# Altium schematic symbol library Connectors.SchLib: 70 symbols
Pins are listed as number, name and electrical type; pins without a type are passive.

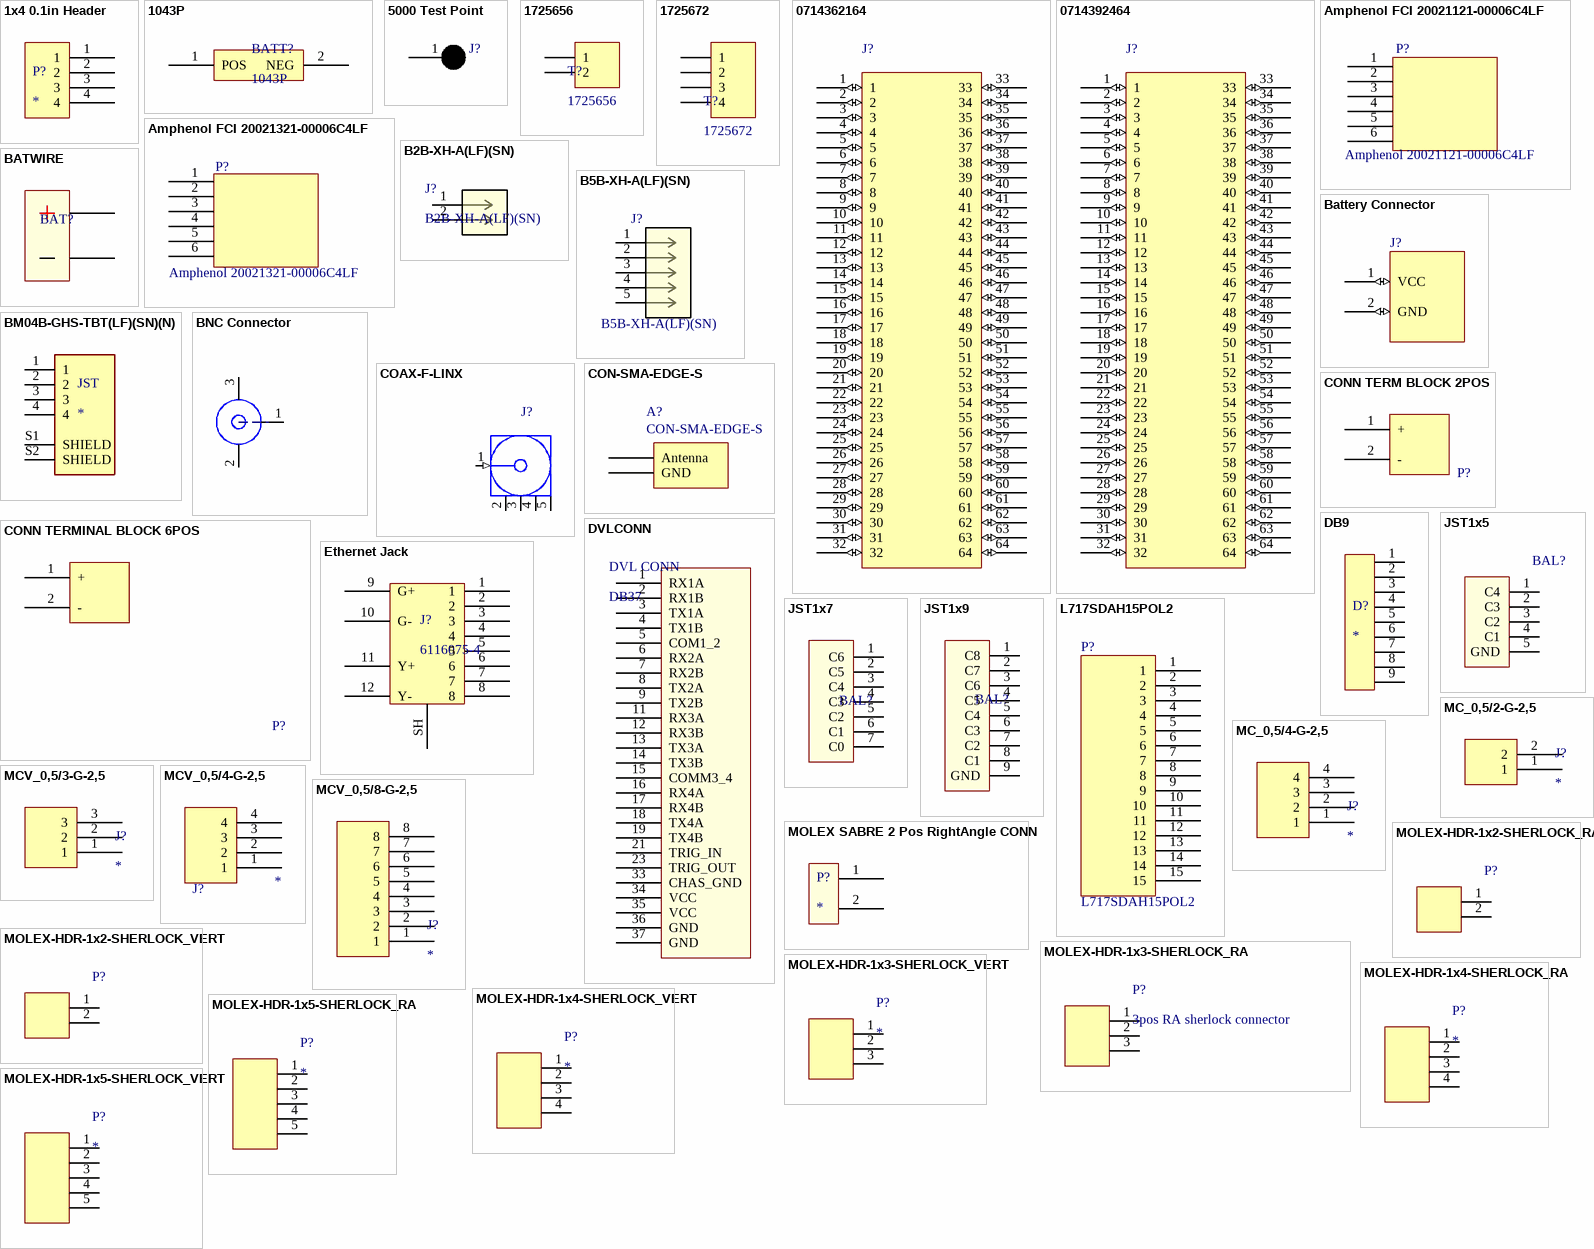
[diagram p0: symbols 1x4 0.1in Header to MOLEX-HDR-1x5-SHERLOCK_VERT]

## 1x4 0.1in Header
designator P?
footprint 1x4 0.1in Header
pins: 1, 2, 3, 4

## 1043P
designator BATT?
HOLDER FOR 18650 BATTERY; Manufacturer 1: Keystone Electronics; Supplier 1: Digi-Key; Supplier Part Number 1: 36-1043P-ND; Manufacturer Part Number 1: 1043P
footprint 1043P (HOLDER FOR 18650 BATTERY)
pins: 1 POS, 2 NEG

## 5000 Test Point
designator J?
footprint 5000 Test Point
pins: 1

## 1725656
designator T?
CONN TERM BLOCK 2.54MM 2POS; Supplier 1: Digi-Key; Supplier Part Number 1: 277-1273-ND
footprint 1725656 (CONN TERM BLOCK 2.54MM 2POS)
pins: 1, 2

## 1725672
designator T?
CONN TERM BLOCK 2.54MM 4POS; Supplier 1: Digi-Key; Supplier Part Number 1: 277-1275-ND
footprint 1725672 (CONN TERM BLOCK 2.54MM 2POS)
pins: 1, 2, 3, 4

## 0714362164
designator J?  (value not drawn)
64 Position Connector Plug, Center Strip Contacts Surface Mount Gold
footprint 1.0mm mezzanine connector 64 pin
pins: 1 (io), 2 (io), 3 (io), 4 (io), 5 (io), 6 (io), 7 (io), 8 (io), 9 (io), 10 (io), 11 (io), 12 (io), 13 (io), 14 (io), 15 (io), 16 (io), 17 (io), 18 (io), 19 (io), 20 (io), 21 (io), 22 (io), 23 (io), 24 (io), 25 (io), 26 (io), 27 (io), 28 (io), 29 (io), 30 (io), 31 (io), 32 (io), 33 (io), 34 (io), 35 (io), 36 (io), 37 (io), 38 (io), 39 (io), 40 (io), 41 (io), 42 (io), 43 (io), 44 (io), 45 (io), 46 (io), 47 (io), 48 (io), 49 (io), 50 (io), 51 (io), 52 (io), 53 (io), 54 (io), 55 (io), 56 (io), 57 (io), 58 (io), 59 (io), 60 (io), 61 (io), 62 (io), 63 (io), 64 (io)

## 0714392464
designator J?  (value not drawn)
64 Position Connector Receptacle, Outer Shroud Contacts Surface Mount Gold
footprint 1.0mm mezzanine connector 64 pin
pins: 1 (io), 2 (io), 3 (io), 4 (io), 5 (io), 6 (io), 7 (io), 8 (io), 9 (io), 10 (io), 11 (io), 12 (io), 13 (io), 14 (io), 15 (io), 16 (io), 17 (io), 18 (io), 19 (io), 20 (io), 21 (io), 22 (io), 23 (io), 24 (io), 25 (io), 26 (io), 27 (io), 28 (io), 29 (io), 30 (io), 31 (io), 32 (io), 33 (io), 34 (io), 35 (io), 36 (io), 37 (io), 38 (io), 39 (io), 40 (io), 41 (io), 42 (io), 43 (io), 44 (io), 45 (io), 46 (io), 47 (io), 48 (io), 49 (io), 50 (io), 51 (io), 52 (io), 53 (io), 54 (io), 55 (io), 56 (io), 57 (io), 58 (io), 59 (io), 60 (io), 61 (io), 62 (io), 63 (io), 64 (io)

## Amphenol FCI 20021121-00006C4LF
designator P?, comment Amphenol 20021121-00006C4LF
6 Positions Header Connector 0.050" (1.27mm) Surface Mount Gold; Manufacturer 1: Amphenol FCI; Manufacturer Part Number 1: 20021121-00006C4LF; Supplier 1: Digi-Key; Supplier Part Number 1: 609-3693-1-ND; ComponentLink1URL: *; ComponentLink1URL: https://www.digikey.com/product-detail/en/amphenol-fci/20021321-00006C4LF/609-3704-1-ND/2209148; ComponentLink1Description: Website; ComponentLink1URL: https://www.digikey.com/product-detail/en/amphenol-fci/20021121-00006C4LF/609-3693-1-ND/2209145
footprint Amphenol FCI 20021121-00006C4LF (6 Positions Header Connector)
pins: 1, 2, 3, 4, 5, 6

## Amphenol FCI 20021321-00006C4LF
designator P?, comment Amphenol 20021321-00006C4LF
6 Position Receptacle Connector 0.050" (1.27mm) Surface Mount Gold; Manufacturer 1: Amphenol FCI; Manufacturer Part Number 1: 20021321-00006C4LF; Supplier 1: Digi-Key; Supplier Part Number 1: 609-3704-1-ND; ComponentLink1URL: *; ComponentLink1URL: https://www.digikey.com/product-detail/en/amphenol-fci/20021321-00006C4LF/609-3704-1-ND/2209148; ComponentLink1Description: Website
footprint Amphenol FCI 20021321-00006C4LF - duplicate (6 Position Receptacle Connector)
pins: 1, 2, 3, 4, 5, 6

## B2B-XH-A(LF)(SN)
designator J?
No Description Available; Mfr_Name: JST; Copyright: Copyright (C) 2023 Ultra Librarian. All rights reserved.; Manufacturer_Part_Number: B2B-XH-A(LF)(SN); RefDes: RefDes; Type: DEV
footprint CONN_B2B-XH-A(LF)(SN)_JST
pins: 1, 2

## B5B-XH-A(LF)(SN)
designator J?
No Description Available; Mfr_Name: JST; Copyright: Copyright (C) 2023 Ultra Librarian. All rights reserved.; Manufacturer_Part_Number: B5B-XH-A(LF)(SN); RefDes: RefDes; Type: DEV
footprint CONN_B5B-XH-A(LF)(SN)_JST
pins: 1, 2, 3, 4, 5

## Battery Connector
designator J?
Battery connector from bus bar to board
footprint Battery Connector
pins: 1 VCC (io), 2 GND (io)

## BATWIRE
designator BAT?  (value not drawn)
Two large gauge leads soldered directly to the board.
footprint BATWIRE12 (Two 12AWG wires soldered directly to the board)
footprint BATWIRE10 (Two 10AWG wires soldered directly to the board)
footprint BATWIRE12_WIDE (Two 12AWG wires soldered directly to the board)
pins: + (power), - (power)

## BM04B-GHS-TBT(LF)(SN)(N)
designator JST
Connector Header Surface Mount 4 position 0.049 _1.25mm_; MF: JST Sales; MP: BM04B-GHS-TBT_LF__SN__N_; SnapEDA_Link: https://www.snapeda.com/parts/BM04B-GHS-TBT%28LF%29%28SN%29%28N%29/JST%20Sales%20America%20Inc./view-part/841999/?ref=snap; Digi-Key_Part_Number: 455-1580-1-ND; Digi-Key_Purchase_URL: https://www.digikey.com/product-detail/en/jst-sales-america-inc/BM04B-GHS-TBT_LF__SN__N_/455-1580-1-ND/807848?utm_source=snapeda&utm_medium=aggregator&utm_campaign=symbol; Value: *; Package: None
footprint JST_BM04B-GHS-TBT(LF)(SN)(N)
pins: 1, 2, 3, 4, S1 SHIELD, S2 SHIELD

## BNC Connector
designator P?, comment BNC
CONN BNC JACK R/A 50 OHM PCB; Suplier 1: Digi-Key; Supplier Part Number 1: WM5524-ND
footprint BNC Connector (For WM5524-ND)
pins: 1 Signal, 2 GND, 3 GND

## COAX-F-LINX
designator J?
RF Coaxial PCB Connector, MCX; Thru-Hole, Right-Angle Mount Socket, Blunt Post Terminal, 50 Ohm Impedance, Edited for 0.2mm larger holes; Supplier 1: Digi-Key; Supplier Part Number 1: *
footprint MCX5.08-H5-EDITED (Connector; RF Coaxial, MCX, Thru-Hole; 5 Position; Edited for hole size 0.2mm larger)
pins: 1 Signal (in) "Signal Pin", 2 GND (power), 3 GND (power), 4 GND (power), 5 GND (power)

## CON-SMA-EDGE-S
designator A?
CONN SMA JACK STR EDGE MNT
footprint CON-SMA-EDGE-S (CONN SMA JACK STR EDGE MNT)
pins: 0 Antenna, 1 GND

## CONN TERM BLOCK 2POS
designator P?, comment WM5964-ND  (value not drawn)
CONN TERM BLOCK 2POS 10.16MM 60A; Supplier 1: Digi-Key; Supplier Part Number 1: WM5964-ND
footprint CONN TERM BLOCK 2POS (CONN TERM BLOCK 2POS 10.16MM 60A)
pins: 1 +, 2 -

## CONN TERMINAL BLOCK 6POS
designator P?, comment WM7862-ND  (value not drawn)
CONN TERMINAL BLOCK 6POS 3.5MM; Supplier 1: Digi-Key; Supplier Part Number 1: WM7862-ND
footprint CONN TERMINAL BLOCK 6POS (CONN TERMINAL BLOCK 6POS 3.5MM)
pins: 1 +, 2 -

## DB9
designator D?
DB9; Supplier 1: Digi-Key; Supplier Part Number 1: A32091-ND
footprint DB9 (CONN D-SUB PLUG 9POS R/A SOLDER)
pins: 1, 2, 3, 4, 5, 6, 7, 8, 9

## DVLCONN
designator DVL CONN, comment DB37
DVL Connector using DSUB37; Manufacturer: FCI; Manufacturer Part Number: 10090098-S374VLF; Supplier 1: Digikey; Supplier Part Number 1: 609-4001-ND
footprint DSUB37_ FEMALE (Connector; D Subminiature; 37 Position; Straight Female)
pins: 1 RX1A, 2 RX1B, 3 TX1A, 4 TX1B, 5 COM1_2, 6 RX2A, 7 RX2B, 8 TX2A, 9 TX2B, 11 RX3A, 12 RX3B, 13 TX3A, 14 TX3B, 15 COMM3_4, 16 RX4A, 17 RX4B, 18 TX4A, 19 TX4B, 21 TRIG_IN, 23 TRIG_OUT, 33 CHAS_GND, 34 VCC, 35 VCC, 36 GND, 37 GND

## Ethernet Jack
designator J?, comment 6116075-4
CONN MOD JACK 8P8C R/A SHIELDED; Manufacturer 1: TE; Supplier 1: Digi-Key; Supplier Part Number 1: 6116075-4-ND; Manufacturer Part Number 1: 6116075-4
footprint Ethernet Jack (CONN MOD JACK 8P8C R/A SHIELDED)
pins: 1, 2, 3, 4, 5, 6, 7, 8, 9 G+, 10 G-, 11 Y+, 12 Y-, SH

## JST1x5
designator BAL?  (value not drawn)
pins: 1 C4, 2 C3, 3 C2, 4 C1, 5 GND

## JST1x7
designator BAL?  (value not drawn)
CONN HEADER XH SIDE 7POS 2.5MM; Supplier 1: Digi-Key; Supplier Part Number 1: 455-2240-ND
footprint JST1x7
pins: 1 C6, 2 C5, 3 C4, 4 C3, 5 C2, 6 C1, 7 C0

## JST1x9
designator BAL?  (value not drawn)
Supplier 1: Digi-Key; Supplier Part Number 1: 455-2224-ND
footprint JST1x9
pins: 1 C8, 2 C7, 3 C6, 4 C5, 5 C4, 6 C3, 7 C2, 8 C1, 9 GND

## L717SDAH15POL2
designator P?
CONN D-SUB PLUG 15POS VERT SLDR; Manufacturer 1: Amphenol Commercial Products; ComponentLink1Description: Datasheet; ComponentLink1URL: https://cdn.amphenol-icc.com/media/wysiwyg/files/documentation/datasheet/cmio/d_df_machined_standard_density_dsub.pdf; Supplier 1: Digi-Key; Supplier Part Number 1: L717SDAH15POL2-ND; Manufacturer Part Number 1: L717SDAH15POL2
footprint L717SDAH15POL2 (CONN D-SUB PLUG 15POS VERT SLDR)
pins: 1, 2, 3, 4, 5, 6, 7, 8, 9, 10, 11, 12, 13, 14, 15

## MC_0,5/2-G-2,5
designator J?
CONN TERM BLOCK 2.50MM 2POS, Right Angle, Through-Hole, 4A; Manufacturer 1: Phoenix Contact; Manufacturer Part Number 1: 1881448; Mating Connector: 277-1430-ND; Supplier 1: Digi-Key; Supplier Part Number 1: 277-1441-ND
footprint MC_0,5/2-G-2,5 (CONN TERM BLOCK 2.50MM 2POS RIGHT ANGLE)
pins: 1, 2

## MC_0,5/4-G-2,5
designator J?
CONN TERM BLOCK 2.50MM 4POS, Right Angle, Through-Hole, 4A; Manufacturer 1: Phoenix Contact; Manufacturer Part Number 1: 1881464; Mating Connector: 277-1432-ND; Supplier 1: Digi-Key; Supplier Part Number 1: 277-1443-ND
footprint MC_0,5/4-G-2,5 (CONN TERM BLOCK 2.50MM 4POS RIGHT ANGLE)
pins: 1, 2, 3, 4

## MCV_0,5/3-G-2,5
designator J?
CONN TERM BLOCK 2.50MM 3POS, Vertical, Through-Hole, 4A; Manufacturer 1: Phoenix Contact; Manufacturer Part Number 1: 1881561; Mating Connector: 277-1431-ND; Supplier 1: Digi-Key; Supplier Part Number 1: 277-1453-ND
footprint MCV_0,5/3-G-2,5 (CONN TERM BLOCK 2.50MM 3POS)
pins: 1, 2, 3

## MCV_0,5/4-G-2,5
designator J?
CONN TERM BLOCK 2.50MM 4POS, Vertical, Through-Hole, 4A; Manufacturer: On-Shore Technology, Inc.; Manufacturer Part Number: OSTVN04A150; Supplier: Digi-Key; Supplier Part Number: ED10563-ND
footprint MCV_0,5/4-G-2,5 (CONN TERM BLOCK 2.50MM 4POS)
pins: 1, 2, 3, 4

## MCV_0,5/8-G-2,5
designator J?
CONN TERM BLOCK 2.50MM 8POS, Vertical, Through-Hole, 4A
footprint MCV_0,5/8-G-2,5 (CONN TERM BLOCK 2.50MM 8POS)
pins: 1, 2, 3, 4, 5, 6, 7, 8

## MOLEX SABRE 2 Pos RightAngle CONN
designator P?
Supplier 1: Digi-Key; Supplier Part Number 1: WM18483-ND
footprint MOLEX-SABRE-2PIN-RA (2 position, right angle, connector)
pins: 1, 2

## MOLEX-HDR-1x2-SHERLOCK_RA
designator P?, comment 2-pin Horz Sherlock  (value not drawn)
Header, Molex, 2mm Pitch Sherlock Header, Single Row, Horizontal, 2 Circuits, Length 3.3mm,  0353630260; Manufacturer: Molex Inc; Manufacturer Part Number: 0353630260; Supplier Part Number 1: WM18931-ND; Supplier 1: Digi-Key
footprint MOLEX-HDR-1X2-SHERLOCK-HORZ
pins: 1, 2

## MOLEX-HDR-1x2-SHERLOCK_VERT
designator P?, comment 2-pin Vert Sherlock  (value not drawn)
Header, Molex, 2mm Pitch Sherlock Header, Single Row, Vertical, 2 Circuits, Length 3.3mm, 0353620250; Manufacturer Part Number: *; Order Part Number: *
footprint MOLEX-HDR-1X2-SHERLOCK-VERT
pins: 1, 2

## MOLEX-HDR-1x3-SHERLOCK_RA
designator P?, comment 3pos RA sherlock connector
Header, Molex, 2mm Pitch Sherlock Header, Single Row, Right Angle 3 Circuits, Length 3.3mm; Manufacturer Part Number: 35363-0360; Manufacturer: Molex Connector Corporation; Supplier Part Number 1: WM18932-ND; Supplier 1: Digi-Key
footprint MOLEX-HDR-1X3-SHERLOCK-RA
pins: 1, 2, 3

## MOLEX-HDR-1x3-SHERLOCK_VERT
designator P?
Header, Molex, 2mm Pitch Sherlock Header, Single Row, Vertical, 3 Circuits, Length 3.3mm, 0353620376; Manufacturer Part Number: *; Order Part Number: *
footprint MOLEX-HDR-1X3-SHERLOCK-VERT
pins: 1, 2, 3

## MOLEX-HDR-1x4-SHERLOCK_RA
designator P?
Header, Molex, 2mm Pitch Sherlock Header, Single Row, Horizontal, 4 Circuits, Length 3.3mm; Manufacturer Part Number: 0353630460; Supplier Part Number 1: WM18933-ND; Manufacturer: Molex; Supplier 1: Digikey
footprint MOLEX-HDR-1X4-SHERLOCK-VERT
footprint MOLEX-HDR-1X4-SHERLOCK-RA
pins: 1, 2, 3, 4

## MOLEX-HDR-1x4-SHERLOCK_VERT
designator P?
Header, Molex, 2mm Pitch Sherlock Header, Single Row, Vertical, 4 Circuits, Length 3.3mm, 0353620450; Manufacturer Part Number: *; Order Part Number: *
footprint MOLEX-HDR-1X4-SHERLOCK-VERT
pins: 1, 2, 3, 4

## MOLEX-HDR-1x5-SHERLOCK_RA
designator P?
Header, Molex, 2mm Pitch Sherlock Header, Single Row, Vertical, 5 Circuits, Length 3.3mm, 0353620550; Manufacturer Part Number: 0353630560; Supplier Part Number 1: WM18934-ND; Supplier 1: Digikey; Manufacturer: Molex
footprint MOLEX-HDR-1X5-SHERLOCK- RA
pins: 1, 2, 3, 4, 5

## MOLEX-HDR-1x5-SHERLOCK_VERT
designator P?
Header, Molex, 2mm Pitch Sherlock Header, Single Row, Vertical, 5 Circuits, Length 3.3mm, 0353620550; Manufacturer Part Number: *; Order Part Number: *
footprint MOLEX-HDR-1X5-SHERLOCK-VERT
pins: 1, 2, 3, 4, 5

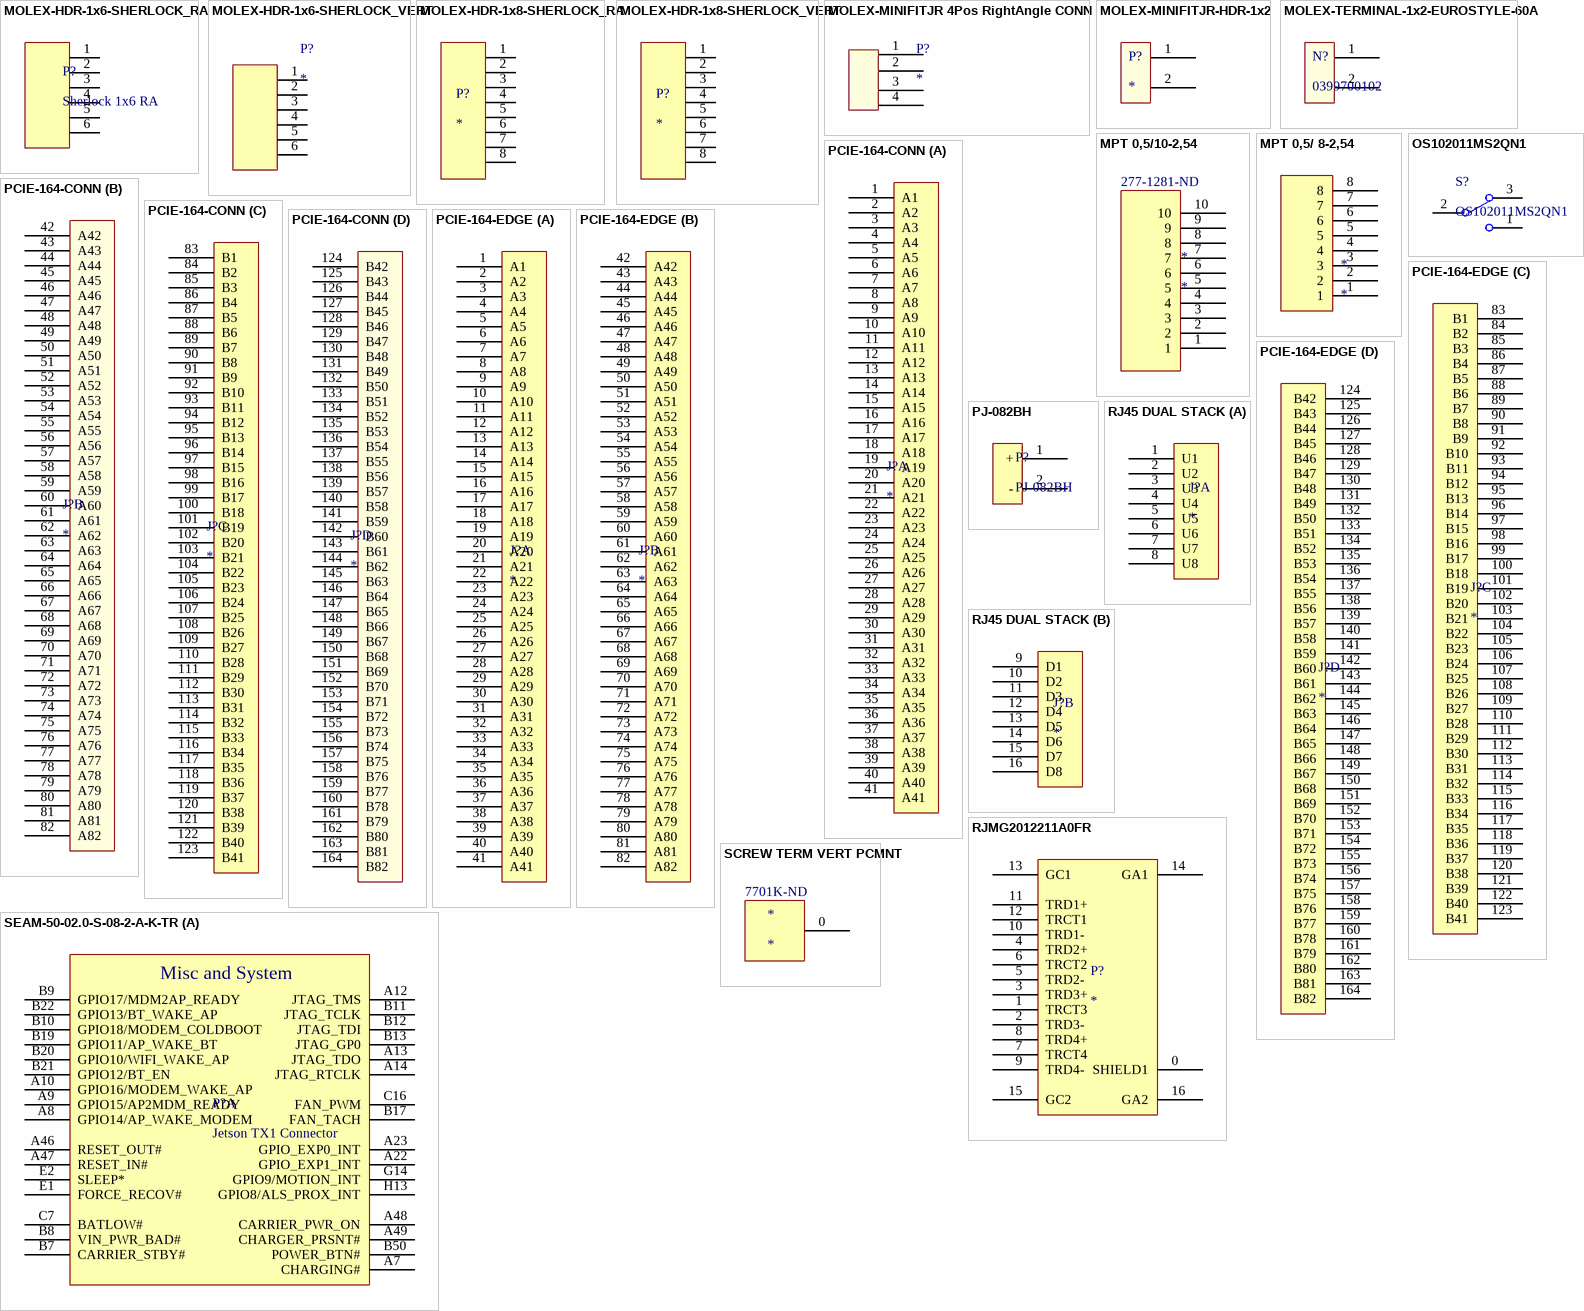
[diagram p1: symbols MOLEX-HDR-1x6-SHERLOCK_RA to SEAM-50-02.0-S-08-2-A-K-TR]

## MOLEX-HDR-1x6-SHERLOCK_RA
designator P?, comment Sherlock 1x6 RA
CONN HEADER 6POS 2MM R/A TIN; Supplier 1: Digi-Key; Supplier Part Number 1: WM18935-ND
footprint MOLEX-HDR-1X6-SHERLOCK- RA
pins: 1, 2, 3, 4, 5, 6

## MOLEX-HDR-1x6-SHERLOCK_VERT
designator P?
Header, Molex, 2mm Pitch Sherlock Header, Single Row, Vertical, 6 Circuits, Length 3.3mm, 0353620650; Manufacturer Part Number: *; Order Part Number: *
footprint MOLEX-HDR-1X6-SHERLOCK-VERT
pins: 1, 2, 3, 4, 5, 6

## MOLEX-HDR-1x8-SHERLOCK_RA
designator P?
CONN HEADER 8POS 2MM R/A TIN; Supplier 1: Digi-Key; Supplier Part Number 1: WM18937-ND
footprint MOLEX-HDR-1X8-SHERLOCK- RA (8 Positions Header Connector 0.079" (2.00mm) Through Hole, Right Angle Tin)
pins: 1, 2, 3, 4, 5, 6, 7, 8

## MOLEX-HDR-1x8-SHERLOCK_VERT
designator P?
CONN HEADER 8POS 2MM VERT TIN; Supplier 1: Digi-Key; Supplier Part Number 1: WM18926-ND
footprint MOLEX-HDR-1X8-SHERLOCK-VERT (8 Positions Header Connector 0.079" (2.00mm) Through Hole Tin)
pins: 1, 2, 3, 4, 5, 6, 7, 8

## MOLEX-MINIFITJR 4Pos RightAngle CONN
designator P?
Supplier 1: Digi-Key; Supplier Part Number 1: WM1352-ND
footprint MOLEX-MINIFITJR-4PINRA
pins: 1, 2, 3, 4

## MOLEX-MINIFITJR-HDR-1x2
designator P?
MINIFITJRHDR VT DR O/PGS 2POS; Supplier 1: Digi-Key; Supplier Part Number 1: WM9814-ND
footprint MOLEX-MINIFITJR-HDR-1x2 (MINIFITJRHDR VT DR O/PGS 2POS)
pins: 1, 2

## MOLEX-TERMINAL-1x2-EUROSTYLE-60A
designator N?, comment 0399700102
Giant 60A two position screw terminal; Supplier 1: Digi-Key; Supplier Part Number 1: WM3193-ND
footprint MOLEX-TERMINAL-1x2-EUROSTYLE-60A
footprint MOLEX-TERMINAL-1x2-EUROSTYLE-60A_Reversed
pins: 1, 2

## MPT 0,5/10-2,54
designator *  Supplier Part Number 1: 277-1281-ND
CONN TERM BLOCK 2.54MM 10POS; Supplier 1: Digi-Key
footprint MPT 0,5/10-2,54 (CONN TERM BLOCK 2.54MM 10POS)
pins: 1, 2, 3, 4, 5, 6, 7, 8, 9, 10

## MPT 0,5/ 8-2,54
designator *
CONN TERM BLOCK 2.54MM 8POS
footprint MPT 0,5/ 8-2,54 (CONN TERM BLOCK 2.54MM 8POS)
pins: 1, 2, 3, 4, 5, 6, 7, 8

## OS102011MS2QN1
designator S?
SWITCH SLIDE SPDT 100MA 12V; Supplier 1: Digi-Key; Supplier Part Number 1: CKN9565-ND
footprint OS102011MS2QN1 (SWITCH SLIDE SPDT 100MA 12V)
pins: 1, 2, 3

## PCIE-164-CONN
designator J?
CONN PCI EXP FEMALE 164POS 0.039; Supplier 1: Digi-Key; Supplier Part Number 1: WM9003-ND
footprint PCIe-164-CONN (PCIe x16 164 Position Board Connector)
part A pins: 1 A1, 2 A2, 3 A3, 4 A4, 5 A5, 6 A6, 7 A7, 8 A8, 9 A9, 10 A10, 11 A11, 12 A12, 13 A13, 14 A14, 15 A15, 16 A16, 17 A17, 18 A18, 19 A19, 20 A20, 21 A21, 22 A22, 23 A23, 24 A24, 25 A25, 26 A26, 27 A27, 28 A28, 29 A29, 30 A30, 31 A31, 32 A32, 33 A33, 34 A34, 35 A35, 36 A36, 37 A37, 38 A38, 39 A39, 40 A40, 41 A41
part B pins: 42 A42, 43 A43, 44 A44, 45 A45, 46 A46, 47 A47, 48 A48, 49 A49, 50 A50, 51 A51, 52 A52, 53 A53, 54 A54, 55 A55, 56 A56, 57 A57, 58 A58, 59 A59, 60 A60, 61 A61, 62 A62, 63 A63, 64 A64, 65 A65, 66 A66, 67 A67, 68 A68, 69 A69, 70 A70, 71 A71, 72 A72, 73 A73, 74 A74, 75 A75, 76 A76, 77 A77, 78 A78, 79 A79, 80 A80, 81 A81, 82 A82
part C pins: 83 B1, 84 B2, 85 B3, 86 B4, 87 B5, 88 B6, 89 B7, 90 B8, 91 B9, 92 B10, 93 B11, 94 B12, 95 B13, 96 B14, 97 B15, 98 B16, 99 B17, 100 B18, 101 B19, 102 B20, 103 B21, 104 B22, 105 B23, 106 B24, 107 B25, 108 B26, 109 B27, 110 B28, 111 B29, 112 B30, 113 B31, 114 B32, 115 B33, 116 B34, 117 B35, 118 B36, 119 B37, 120 B38, 121 B39, 122 B40, 123 B41
part D pins: 124 B42, 125 B43, 126 B44, 127 B45, 128 B46, 129 B47, 130 B48, 131 B49, 132 B50, 133 B51, 134 B52, 135 B53, 136 B54, 137 B55, 138 B56, 139 B57, 140 B58, 141 B59, 142 B60, 143 B61, 144 B62, 145 B63, 146 B64, 147 B65, 148 B66, 149 B67, 150 B68, 151 B69, 152 B70, 153 B71, 154 B72, 155 B73, 156 B74, 157 B75, 158 B76, 159 B77, 160 B78, 161 B79, 162 B80, 163 B81, 164 B82

## PCIE-164-EDGE
designator J?
PCIe x16 Edge Connector pad layout
footprint PCIE-164-EDGE (PCIe x16 Edge Connector Pads, 164 position)
part A pins: 1 A1, 2 A2, 3 A3, 4 A4, 5 A5, 6 A6, 7 A7, 8 A8, 9 A9, 10 A10, 11 A11, 12 A12, 13 A13, 14 A14, 15 A15, 16 A16, 17 A17, 18 A18, 19 A19, 20 A20, 21 A21, 22 A22, 23 A23, 24 A24, 25 A25, 26 A26, 27 A27, 28 A28, 29 A29, 30 A30, 31 A31, 32 A32, 33 A33, 34 A34, 35 A35, 36 A36, 37 A37, 38 A38, 39 A39, 40 A40, 41 A41
part B pins: 42 A42, 43 A43, 44 A44, 45 A45, 46 A46, 47 A47, 48 A48, 49 A49, 50 A50, 51 A51, 52 A52, 53 A53, 54 A54, 55 A55, 56 A56, 57 A57, 58 A58, 59 A59, 60 A60, 61 A61, 62 A62, 63 A63, 64 A64, 65 A65, 66 A66, 67 A67, 68 A68, 69 A69, 70 A70, 71 A71, 72 A72, 73 A73, 74 A74, 75 A75, 76 A76, 77 A77, 78 A78, 79 A79, 80 A80, 81 A81, 82 A82
part C pins: 83 B1, 84 B2, 85 B3, 86 B4, 87 B5, 88 B6, 89 B7, 90 B8, 91 B9, 92 B10, 93 B11, 94 B12, 95 B13, 96 B14, 97 B15, 98 B16, 99 B17, 100 B18, 101 B19, 102 B20, 103 B21, 104 B22, 105 B23, 106 B24, 107 B25, 108 B26, 109 B27, 110 B28, 111 B29, 112 B30, 113 B31, 114 B32, 115 B33, 116 B34, 117 B35, 118 B36, 119 B37, 120 B38, 121 B39, 122 B40, 123 B41
part D pins: 124 B42, 125 B43, 126 B44, 127 B45, 128 B46, 129 B47, 130 B48, 131 B49, 132 B50, 133 B51, 134 B52, 135 B53, 136 B54, 137 B55, 138 B56, 139 B57, 140 B58, 141 B59, 142 B60, 143 B61, 144 B62, 145 B63, 146 B64, 147 B65, 148 B66, 149 B67, 150 B68, 151 B69, 152 B70, 153 B71, 154 B72, 155 B73, 156 B74, 157 B75, 158 B76, 159 B77, 160 B78, 161 B79, 162 B80, 163 B81, 164 B82

## PJ-082BH
designator P?
CONN PWR JACK 2.5X5.5MM PCB 10A; Manufacturer 1: CUI Inc; Supplier 1: Digi-Key; Supplier Part Number 1: CP-082BHCT-ND; Manufacturer Part Number 1: PJ-082BH
pins: 1 +, 2 -

## RJ45 DUAL STACK
designator J?
CONN MOD JACK 8P8C R/A SHIELDED; Supplier 1: Digi-Key; Supplier Part Number 1: A31482-ND
footprint RJ45 DUAL STACK (RJ45, 8p8c, 2 port, double stacked connector)
part A pins: 1 U1, 2 U2, 3 U3, 4 U4, 5 U5, 6 U6, 7 U7, 8 U8
part B pins: 9 D1, 10 D2, 11 D3, 12 D4, 13 D5, 14 D6, 15 D7, 16 D8

## RJMG2012211A0FR
designator P?
CONN MAGJACK 1PORT 1000 BASE-T; Supplier Part Number 1: RJMG2012211A0FR-ND; Supplier 1: Digi-Key
footprint RJMG2012211A0FR (1 Port RJ45 Magjack Connector Board Edge, Through Hole 10/100/1000 Base-T, AutoMDIX)
pins: 0 SHIELD1, 1 TRCT3, 2 TRD3-, 3 TRD3+, 4 TRD2+, 5 TRD2-, 6 TRCT2, 7 TRCT4, 8 TRD4+, 9 TRD4-, 10 TRD1-, 11 TRD1+, 12 TRCT1, 13 GC1, 14 GA1, 15 GC2, 16 GA2

## SCREW TERM VERT PCMNT
designator *  Supplier Part Number 1: 7701K-ND
Keystone Electronics 7701; Supplier 1: Digi-Key
footprint SCREW TERM SINGLE VERT (Keystone Electronics 7701 - TERM W/ASSEMBLD SCREW VERT PCMNT)
pins: 0 1

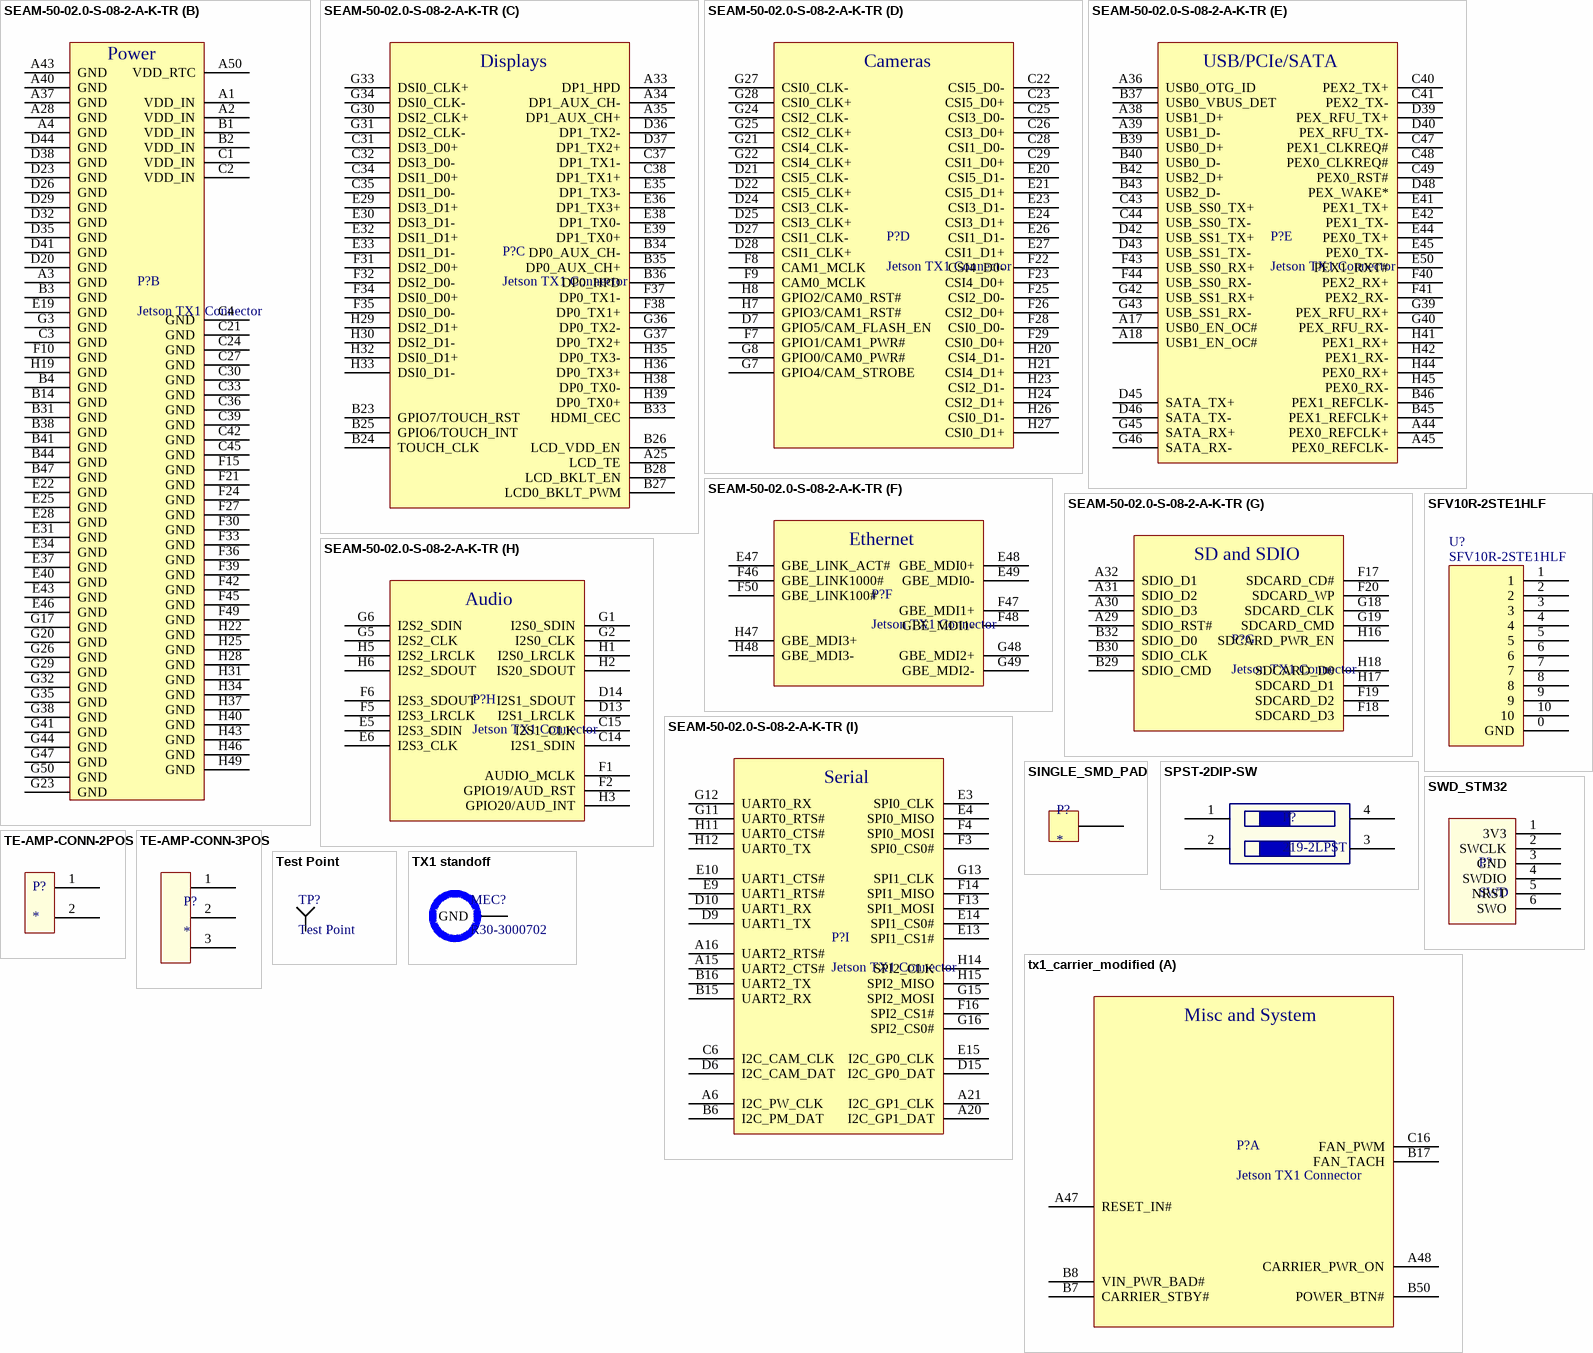
[diagram p2: symbols SEAM-50-02.0-S-08-2-A-K-TR to tx1_carrier_modified]

## SEAM-50-02.0-S-08-2-A-K-TR
designator P?, comment Jetson TX1 Connector
CONN MALE 400POS 8ROW SMD GOLD; Manufacturer 1: Samtec Inc; Manufacturer Part Number 1: SEAM-50-02.0-S-08-2-A-K-TR; Supplier 1: Digi-Key; Supplier Part Number 1: SEAM-50-02.0-S-08-2-A-K-TR-ND
footprint SEAM-50-02.0-S-08-2-A-K-TR (TX 1 carrier board connector)
part A pins: A5 RSVD hidden "Not Used", A7 CHARGING# "Charger Interrupt", A8 GPIO14/AP_WAKE_MODEM "AP (Tegra) Wake Modem", A9 GPIO15/AP2MDM_READY "AP (Tegra) to Modem Ready", A10 GPIO16/MODEM_WAKE_AP "Modem Wake AP", A11 RSVD hidden "Not Used", A12 JTAG_TMS "JTAG Test Mode Select", A13 JTAG_TDO "JTAG Test Data Out", A14 JTAG_RTCLK "JTAG Return Clock", A19 RSVD hidden "Not used", A22 GPIO_EXP1_INT "GPIO Expander 1 Interrupt", A23 GPIO_EXP0_INT "GPIO expander 0 Interrupt", A24 RSVD hidden "Not used", A26 RSVD hidden "Not used", A27 RSVD hidden "Not used", A41 RSVD hidden "Not used", A42 RSVD hidden "Not used", A46 RESET_OUT# "Reset from carrier board to Tegra & eMMC", A47 RESET_IN# "System Reset output from uill & input to initiate full PMIC reset", A48 CARRIER_PWR_ON "Carrier Power On", A49 CHARGER_PRSNT# "PMIC AC OK", B5 RSVD hidden "Not used", B7 CARRIER_STBY# "SOC Power Request", B8 VIN_PWR_BAD# "Input Power Bad", B9 GPIO17/MDM2AP_READY "Mode to AP (Tegra) Ready", B10 GPIO18/MODEM_COLDBOOT "Modem Coldboot", B11 JTAG_TCLK "JTAG Test Clock", B12 JTAG_TDI "JTAG Test Data In", B13 JTAG_GP0 "JTAG Test Reset", B17 FAN_TACH "Fan Tach", B18 RSVD hidden "Not used", B19 GPIO11/AP_WAKE_BT "LCD Enable", B20 GPIO10/WIFI_WAKE_AP "Wi-Fi 2 Wake AP (Tegra)", B21 GPIO12/BT_EN "BT 2 Enable", B22 GPIO13/BT_WAKE_AP "BT 2 Wake AP (Tegra)", B48 RSVD hidden "Not used", B49 RSVD hidden "Not used", B50 POWER_BTN# "Power on", C5 RSVD hidden "Not used", C7 BATLOW# "GPIO - Low Battery", C8 RSVD hidden "Not used", C9 RSVD hidden "Not used", C10 RSVD hidden "Not used", C11 RSVD hidden "Not used", C12 RSVD hidden "Not used", C13 RSVD hidden "Not used", C16 FAN_PWM "Fan PWM", C17 RSVD hidden "Not used", C18 RSVD hidden "Not used", C19 RSVD hidden "Not used", C20 RSVD hidden "Not used", C46 RSVD hidden "Not used", C50 RSVD hidden "Not used", D1 RSVD hidden "Not used", D2 RSVD hidden "Not used", D3 RSVD hidden "Not used", D4 RSVD hidden "Not used", D5 RSVD hidden "Not used", D8 RSVD hidden "Not used", D11 RSVD hidden "Not used", D12 RSVD hidden "Not used", D16 RSVD hidden "Not used", D17 RSVD hidden "Not used", D18 RSVD hidden "Not used", D19 RSVD hidden "Not used", D30 RSVD hidden "Not used", D31 RSVD hidden "Not used", D33 RSVD hidden "Not used", D34 RSVD hidden "Not used", D47 RSVD hidden "Not used", D49 RSVD hidden "Not used", D50 RSVD hidden "Not used", E1 FORCE_RECOV# "Force Recovery strap pin", E2 SLEEP* "Sleep input", E7 RSVD hidden "Not used", E8 RSVD hidden "Not used", E11 RSVD hidden "Not used", E12 RSVD hidden "Not used", E16 RSVD hidden "Not used", E17 RSVD hidden "Not used", E18 RSVD hidden "Not used", F11 RSVD hidden "Not used", F12 RSVD hidden "Not used", G4 RSVD hidden "Not used", G9 UART3_CTS# hidden "Not used", G10 UART3_RTS# hidden "Not used", G14 GPIO9/MOTION_INT "ICM20628 Gyro/Accel", H4 RSVD hidden "Not used", H9 UART3_RX hidden "Not used", H10 UART3_TX hidden "Not used", H13 GPIO8/ALS_PROX_INT "Proximity Sensor Interrupt", H50 RSVD hidden "Not Used"
part B pins: A1 VDD_IN "Main VDD Input", A2 VDD_IN "Main VDD Input", A3 GND, A4 GND, A28 GND, A37 GND, A40 GND, A43 GND, A50 VDD_RTC "Tegra Real Time Clock block power", B1 VDD_IN "Main VDD Input", B2 VDD_IN "Main VDD Input", B3 GND, B4 GND, B14 GND, B31 GND, B38 GND, B41 GND, B44 GND, B47 GND, C1 VDD_IN "Main VDD Input", C2 VDD_IN "Main VDD Input", C3 GND, C4 GND, C21 GND, C24 GND, C27 GND, C30 GND, C33 GND, C36 GND, C39 GND, C42 GND, C45 GND, D20 GND, D23 GND, D26 GND, D29 GND, D32 GND, D35 GND, D38 GND, D41 GND, D44 GND, E19 GND, E22 GND, E25 GND, E28 GND, E31 GND, E34 GND, E37 GND, E40 GND, E43 GND, E46 GND, F10 GND, F15 GND, F21 GND, F24 GND, F27 GND, F30 GND, F33 GND, F36 GND, F39 GND, F42 GND, F45 GND, F49 GND, G3 GND, G17 GND, G20 GND, G23 GND, G26 GND, G29 GND, G32 GND, G35 GND, G38 GND, G41 GND, G44 GND, G47 GND, G50 GND, H19 GND, H22 GND, H25 GND, H28 GND, H31 GND, H34 GND, H37 GND, H40 GND, H43 GND, H46 GND, H49 GND
part C pins: A25 LCD_TE "Display Tearing Effect", A33 DP1_HPD "Display Port 1 Hot Plug Detect", A34 DP1_AUX_CH- "Display Port 1 Aux- or HDMI DDC SDA", A35 DP1_AUX_CH+ "Display Port 1 Aux+ or HDMI DDC SCL", B23 GPIO7/TOUCH_RST "Touch Reset", B24 TOUCH_CLK "Touch Clock", B25 GPIO6/TOUCH_INT "Touch Interrupt", B26 LCD_VDD_EN "Dispay Reset", B27 LCD0_BKLT_PWM "Dispaly Backlight PWM", B28 LCD_BKLT_EN "Display Backlight Enable", B33 HDMI_CEC "HDMI CEC", B34 DP0_AUX_CH- "Display Port 0 Auxiliary Channel-", B35 DP0_AUX_CH+ "Display Port 0 Auxiliary Channel+", B36 DP0_HPD "Display Port 0 Hot Plug Detect", C31 DSI3_D0+ "Display, DSI 3 Data 2+", C32 DSI3_D0- "Display, DSI 3 Data 2-", C34 DSI1_D0+ "Display, DSI 1 Data 2+", C35 DSI1_D0- "Display, DSI 1 Data 2-", C37 DP1_TX1- "DisplayPort 1 Lane 1- / HDMI Lane 1-", C38 DP1_TX1+ "DisplayPort 1 Lane 1+ / HDMI Lane 1+", D36 DP1_TX2- "DisplayPort 1 Lane 2- / HDMI Lane 0-", D37 DP1_TX2+ "DisplayPort 1 Lane 2+ / HDMI Lane 0+", E29 DSI3_D1+ "Display, DSI 3 Data 3+", E30 DSI3_D1- "Display, DSI 3 Data 3-", E32 DSI1_D1+ "Display, DSI 1 Data 3+", E33 DSI1_D1- "Display, DSI 1 Data 3-", E35 DP1_TX3- "DisplayPort 1 Lane 3- / HDMI Clk Lane-", E36 DP1_TX3+ "DisplayPort 1 Lane 3+ / HDMI Clk Lane+", E38 DP1_TX0- "DisplayPort 1 Lane 0- / HDMI Lane 2-", E39 DP1_TX0+ "DisplayPort 1 Lane 0+ / HDMI Lane 2+", F31 DSI2_D0+ "Display, DSI 2 Data 0+", F32 DSI2_D0- "Display, DSI 2 Data 0-", F34 DSI0_D0+ "Display, DSI 0 Data 0+", F35 DSI0_D0- "Display DSI 0 Data 0-", F37 DP0_TX1- "Display Port 0 Data Lane 1-", F38 DP0_TX1+ "Display Port 0 Data Lane 1+", G30 DSI2_CLK+ "Display, DSI 2 Clock+", G31 DSI2_CLK- "Display, DSI 2 Clock-", G33 DSI0_CLK+ "Display, DSI 0 Clock+", G34 DSI0_CLK- "Display, DSI 0 Clock-", G36 DP0_TX2- "Display Port 0 Data Lane 2-", G37 DP0_TX2+ "Display Port 0 Data Lane 2+", H29 DSI2_D1+ "Display, DSI 2 Data 1+", H30 DSI2_D1- "Display, DSI 2 Data 1-", H32 DSI0_D1+ "Display, DSI 0 Data 1+", H33 DSI0_D1- "Display, DSI 0 Data 1-", H35 DP0_TX3- "Display Port 0 Data Lane 3-", H36 DP0_TX3+ "Display Port 0 Data Lane 3+", H38 DP0_TX0- "Display Port 0 Data Lane 0-", H39 DP0_TX0+ "Display Port 0 Data Lane 0+"
part D pins: C22 CSI5_D0- "Camera, CSI 5 Data 0-", C23 CSI5_D0+ "Camera, CSI 5 Data 0+", C25 CSI3_D0- "Camera, CSI 3 Data 0-", C26 CSI3_D0+ "Camera, CSI 3 Data 0+", C28 CSI1_D0- "Camera, CSI 1 Data 0-", C29 CSI1_D0+ "Camera, CSI 1 Data 0+", D7 GPIO5/CAM_FLASH_EN "Camera Flash Enable", D21 CSI5_CLK- "Camera, CSI 5 Clock-", D22 CSI5_CLK+ "Camera, CSI 5 Clock+", D24 CSI3_CLK- "Camera, CSI 3 Clock-", D25 CSI3_CLK+ "Camera, CSI 3 Clock+", D27 CSI1_CLK- "Camera, CSI 1 Clock-", D28 CSI1_CLK+ "Camera, CSI 1 Clock+", E20 CSI5_D1- "Camera, CSI 5 Data 1-", E21 CSI5_D1+ "Camera, CSI 5 Data 1+", E23 CSI3_D1- "Camera, CSI 3 Data 1-", E24 CSI3_D1+ "Camera, CSI 3 Data 1+", E26 CSI1_D1- "Camera, CSI 1 Data 1-", E27 CSI1_D1+ "Camera, CSI 1 Data 1+", F7 GPIO1/CAM1_PWR# "Camera 1 Powerdown", F8 CAM1_MCLK "Camera 1 Reference Clock", F9 CAM0_MCLK "Camera 0 Reference Clock", F22 CSI4_D0- "Camera, CSI 4 Clock-", F23 CSI4_D0+ "Camera, CSI 4 Clock+", F25 CSI2_D0- "Camera, CSI 2 Data 0-", F26 CSI2_D0+ "Camera, CSI 2 Data 0+", F28 CSI0_D0- "Camera, CSI 0 Data 0-", F29 CSI0_D0+ "Camera, CSI 0 Data 0+", G7 GPIO4/CAM_STROBE "Camera 1 Strobe", G8 GPIO0/CAM0_PWR# "Camera 1 Poweroff", G21 CSI4_CLK- "Camera, CSI 4 Clock-", G22 CSI4_CLK+ "Camera, CSI 4 Clock+", G24 CSI2_CLK- "Camera, CSI 2 Clock-", G25 CSI2_CLK+ "Camera, CSI 2 Clock+", G27 CSI0_CLK- "Camera, CSI 0 Clock-", G28 CSI0_CLK+ "Camera, CSI 0 Clock+", H7 GPIO3/CAM1_RST# "Camera Autofocus Enable", H8 GPIO2/CAM0_RST# "Camera Reset", H20 CSI4_D1- "Camera, CSI 4 Data 1-", H21 CSI4_D1+ "Camera, CSI 4 Data 1+", H23 CSI2_D1- "Camera, CSI 2 Data 1-", H24 CSI2_D1+ "Camera, CSI 2 Data 1+", H26 CSI0_D1- "Camera, CSI 0 Data 1+", H27 CSI0_D1+ "Camera, CSI 0 Data 1+"
part E pins: A17 USB0_EN_OC# "Micro USB VBUS Enable 0", A18 USB1_EN_OC# "USB 3.0 Type A, USB Enable 1", A36 USB0_OTG_ID "USB0 ID/VBUS EN", A38 USB1_D+ "USB 2.0, Port 1 Data+", A39 USB1_D- "USB 2.0, Port 1 Data-", A44 PEX0_REFCLK+ "PCIe Reference Clock 0+", A45 PEX0_REFCLK- "PCIe Reference Clock 0-", B37 USB0_VBUS_DET "USB0 VBUS", B39 USB0_D+ "Micro USB Data+", B40 USB0_D- "Micro USB Data-", B42 USB2_D+ "USB 2.0, Port 2 Data+", B43 USB2_D- "USB 2.0, Port 2 Data-", B45 PEX1_REFCLK+ "PCIe Reference Clock 1+", B46 PEX1_REFCLK- "PCIe Reference Clock 1-", C40 PEX2_TX+ "PCIe Lane 2 Transmit+", C41 PEX2_TX- "PCIe Lane 2 Transmit-", C43 USB_SS0_TX+ "USB 3.0 #0 Transmit+ (PCIe Lane 5)", C44 USB_SS0_TX- "USB 3.0 #0 Transmit- (PCIe Lane 5)", C47 PEX1_CLKREQ# "PCIE 1 Clock Request", C48 PEX0_CLKREQ# "PCIE 0 Clock Request", C49 PEX0_RST# "PCIe Reset 0", D39 PEX_RFU_TX+ "PCIe Lane RFU Transmit+", D40 PEX_RFU_TX- "PCIe Lane RFU Transmit-", D42 USB_SS1_TX+ "USB 3.0 #1 or PCIe Lane 3 Transmit+", D43 USB_SS1_TX- "USB 3.0 #1 or PCIe Lane 3 Transmit-", D45 SATA_TX+ "SATA Transmit+", D46 SATA_TX- "SATA Transmit-", D48 PEX_WAKE* "PCIe Wake", E41 PEX1_TX+ "PCIe Lane 1 Transmit+", E42 PEX1_TX- "PCIe Lane 1 Transmit-", E44 PEX0_TX+ "PCIe Lane 0 Transmit+", E45 PEX0_TX- "PCIe Lane 0 Transmit-", E50 PEX1_RXT# "PCIe 1 Reset", F40 PEX2_RX+ "PCIe Lane 2 Receive+", F41 PEX2_RX- "PCIe Lane 2 Receive-", F43 USB_SS0_RX+ "USB 3.0 #0 Receive+ (PCIe Lane 5)", F44 USB_SS0_RX- "USB 3.0 #0 Receive- (PCIe Lane 5)", G39 PEX_RFU_RX+ "PCIe Lane RFU Receive+", G40 PEX_RFU_RX- "PCIe Lane RFU Receive-", G42 USB_SS1_RX+ "USB 3.0 #1 or PCIe Lane 3 Receive+", G43 USB_SS1_RX- "USB 3.0 #1 or PCIe Lane 3 Receive-", G45 SATA_RX+ "SATA Receive+", G46 SATA_RX- "SATA Receive-", H41 PEX1_RX+ "PCIe Lane 1 Receive+", H42 PEX1_RX- "PCIe Lane 1 Receive-", H44 PEX0_RX+ "PCIe Lane 0 Receive+", H45 PEX0_RX- "PCIe Lane 0 Receive-"
part F pins: E47 GBE_LINK_ACT# "GbE RJ45 connector Link ACT LED0", E48 GBE_MDI0+ "GbE Transformer Data 0+", E49 GBE_MDI0- "GbE Transformer Data 0-", F46 GBE_LINK1000# "GbE RJ45 connector Link 1000 LED2", F47 GBE_MDI1+ "GbE Transformer Data 1+", F48 GBE_MDI1- "GbE Transformer Data 1-", F50 GBE_LINK100# "GbE RJ45 connector Link 100 LED1", G48 GBE_MDI2+ "GbE Transformer Data 2+", G49 GBE_MDI2- "GbE Transformer Data 2-", H47 GBE_MDI3+ "GbE Transformer Data 3+", H48 GBE_MDI3- "GbE Transformer Data 3-"
part G pins: A29 SDIO_RST# "SDIO Reset", A30 SDIO_D3 "SDIO Data 3", A31 SDIO_D2 "SDIO Data 2", A32 SDIO_D1 "SDIO Data 1", B29 SDIO_CMD "SDIO Command", B30 SDIO_CLK "SDIO Clock", B32 SDIO_D0 "SDIO Data 0", F17 SDCARD_CD# "SD Card Detect", F18 SDCARD_D3 "SD Card Data 3", F19 SDCARD_D2 "SD Card Data 2", F20 SDCARD_WP "SD Card Write Protect", G18 SDCARD_CLK "SD Card Clock", G19 SDCARD_CMD "SD Card Command", H16 SDCARD_PWR_EN "SD Card power switch Enable", H17 SDCARD_D1 "SD Card Data 1", H18 SDCARD_D0 "SD Card Data 0"
part H pins: C14 I2S1_SDIN "I2S Audio Port 1 Data In", C15 I2S1_CLK "I2S Audio Port 1 Clock", D13 I2S1_LRCLK "I2S Audio Port 1 Field Select", D14 I2S1_SDOUT "I2S Audio Port 1 Data Out", E5 I2S3_SDIN "I2S Audio Port 3 Data In", E6 I2S3_CLK "I2S Audio Port 3 Clock", F1 AUDIO_MCLK "Audio Codec Master Clock", F2 GPIO19/AUD_RST "Aidio Codec Reset", F5 I2S3_LRCLK "I2S Audio Port 3 Field Select", F6 I2S3_SDOUT "I2S Audio Port 3 Data Out", G1 I2S0_SDIN "Digital Audio Port 1 Data In", G2 I2S0_CLK "Digital Audio Port 1 Clock", G5 I2S2_CLK "Digital Audio Port 3 Clock", G6 I2S2_SDIN "Digital Audio Port 3 Data In", H1 I2S0_LRCLK "I2S Audio Port 0 Field Select", H2 IS20_SDOUT "I2S Audio Port 0 Data Out", H3 GPIO20/AUD_INT "Audio Codec Interrupt", H5 I2S2_LRCLK "I2S Audio Port 2 Field Select", H6 I2S2_SDOUT "I2S Audio Port 2 Data Out"
part I pins: A6 I2C_PW_CLK "PM I2C Bus Clock", A15 UART2_CTS# "UART 2 Clear to Send", A16 UART2_RTS# "UART 2 Request to Send", A20 I2C_GP1_DAT "General I2C Bus #1 Data", A21 I2C_GP1_CLK "General I2C Bus #1 Clock", B6 I2C_PM_DAT "PM I2C Bus Data", B15 UART2_RX "UART 2 Receive", B16 UART2_TX "UART 2 Transmit", C6 I2C_CAM_CLK "Camera I2C Clock", D6 I2C_CAM_DAT "Camera I2C Data", D9 UART1_TX "UART 1 Transmit", D10 UART1_RX "UART 1 Receive", D15 I2C_GP0_DAT "General I2C Bus #1 Data", E3 SPI0_CLK "SPI 0 Clock", E4 SPI0_MISO "SPI 0 MISO", E9 UART1_RTS# "Uart 1 Transmit", E10 UART1_CTS# "Uart 1 Receive", E13 SPI1_CS1# "SPI 1 CHip Select 1", E14 SPI1_CS0# "SPI 1 Chip Select 0", E15 I2C_GP0_CLK "General I2C Bus #0 Clock", F3 SPI0_CS0# "SPI 0 Chip Select 0", F4 SPI0_MOSI "SPI 0 MOSI", F13 SPI1_MOSI "SPI 1 MOSI", F14 SPI1_MISO "SPI 1 MISO", F16 SPI2_CS1# "SPI 2 Chip Select 1", G11 UART0_RTS# "UART 1 Return to Send", G12 UART0_RX "UART 1 Receive", G13 SPI1_CLK "SPI 1 Clock", G15 SPI2_MOSI "SPI 2 MOSI", G16 SPI2_CS0# "SPI 2 Chip Select 0", H11 UART0_CTS# "UART 0 Clear to Send", H12 UART0_TX "UART 0 Transmit", H14 SPI2_CLK "SPI 2 Clock", H15 SPI2_MISO "SPI 2 MISO"
part A text: Misc and System
part B text: Power
part C text: Displays
part D text: Cameras
part E text: USB/PCIe/SATA
part F text: Ethernet
part G text: SD and SDIO
part H text: Audio
part I text: Serial

## SFV10R-2STE1HLF
designator U?
CONN FFC TOP 10POS 0.50MM R/A; Manufacturer 1: Amphenol FCI; Manufacturer Part Number 1: SFV10R-2STE1HLF; Supplier Part Number 1: 609-4306-1-ND; Supplier 1: Digi-Key; ComponentLink1URL: https://cdn.amphenol-icc.com/media/wysiwyg/files/drawing/10112793.pdf; ComponentLink1Description: "Datasheet"; ComponentLink2URL: https://www.digikey.com/product-detail/en/amphenol-fci/SFV10R-2STE1HLF/609-4306-1-ND/2626757
footprint SFV10R-2STE1HLF (CONN FFC TOP 10POS 0.50MM R/A)
pins: 0 GND, 1, 2, 3, 4, 5, 6, 7, 8, 9, 10

## SINGLE_SMD_PAD
designator P?
footprint SINGLE_SMD_PAD
pins: 0

## SPST-2DIP-SW
designator P?, comment 219-2LPST
SWITCH TAPE SEAL 2 POS SMD 50V; Supplier 1: Digi-Key; Supplier Part Number 1: CT2192LPST-ND
footprint SPST-4N (For SPST-4DIP)
pins: 1, 2, 3, 4

## SWD_STM32
designator P?, comment SWD
SWD connector matching the pinout on STM Discovery Boards
footprint SWD_STM32 (SWD connector matching the pinout on STM Discovery Boards)
footprint SWD_STM32_SMD (SWD connector matching the pinout on STM Discovery Boards)
pins: 1 3V3, 2 SWCLK, 3 GND, 4 SWDIO, 5 NRST, 6 SWO

## TE-AMP-CONN-2POS
designator P?
2 Positions Header Connector 0.156" (3.96mm) Through Hole Tin; Supplier 1: Digi-Key; Supplier Part Number 1: A99845-ND; Mating Conn. Digi-Key P/N: A103948-ND
footprint TE AMP CONN 2POS (CONN HEADER 2POS STR .156 TIN)
pins: 1, 2

## TE-AMP-CONN-3POS
designator P?
3 Positions Header Connector 0.156" (3.96mm) Through Hole Tin; Supplier 1: Digi-Key; Supplier Part Number 1: A99846-ND; Mating Conn. Digi-Key P/N: A103941-ND
footprint TE AMP CONN 2POS - duplicate (CONN HEADER 3POS STR .156 TIN)
pins: 1, 2, 3

## Test Point
designator TP?
footprint PIN1 (Connector; Plug)
pins: 1

## TX1 standoff
designator MEC?, comment R30-3000702
HEX STANDOFF M3 BRASS 7MM; Manufacturer 1: Harwin, Inc; Manufacturer Part Number 1: R30-3000702; Supplier 1: Digi-Key; Supplier Part Number 1: 952-1498-ND
footprint R30-3000702 (HEX STANDOFF M3 BRASS 7MM)
pins: 1 GND

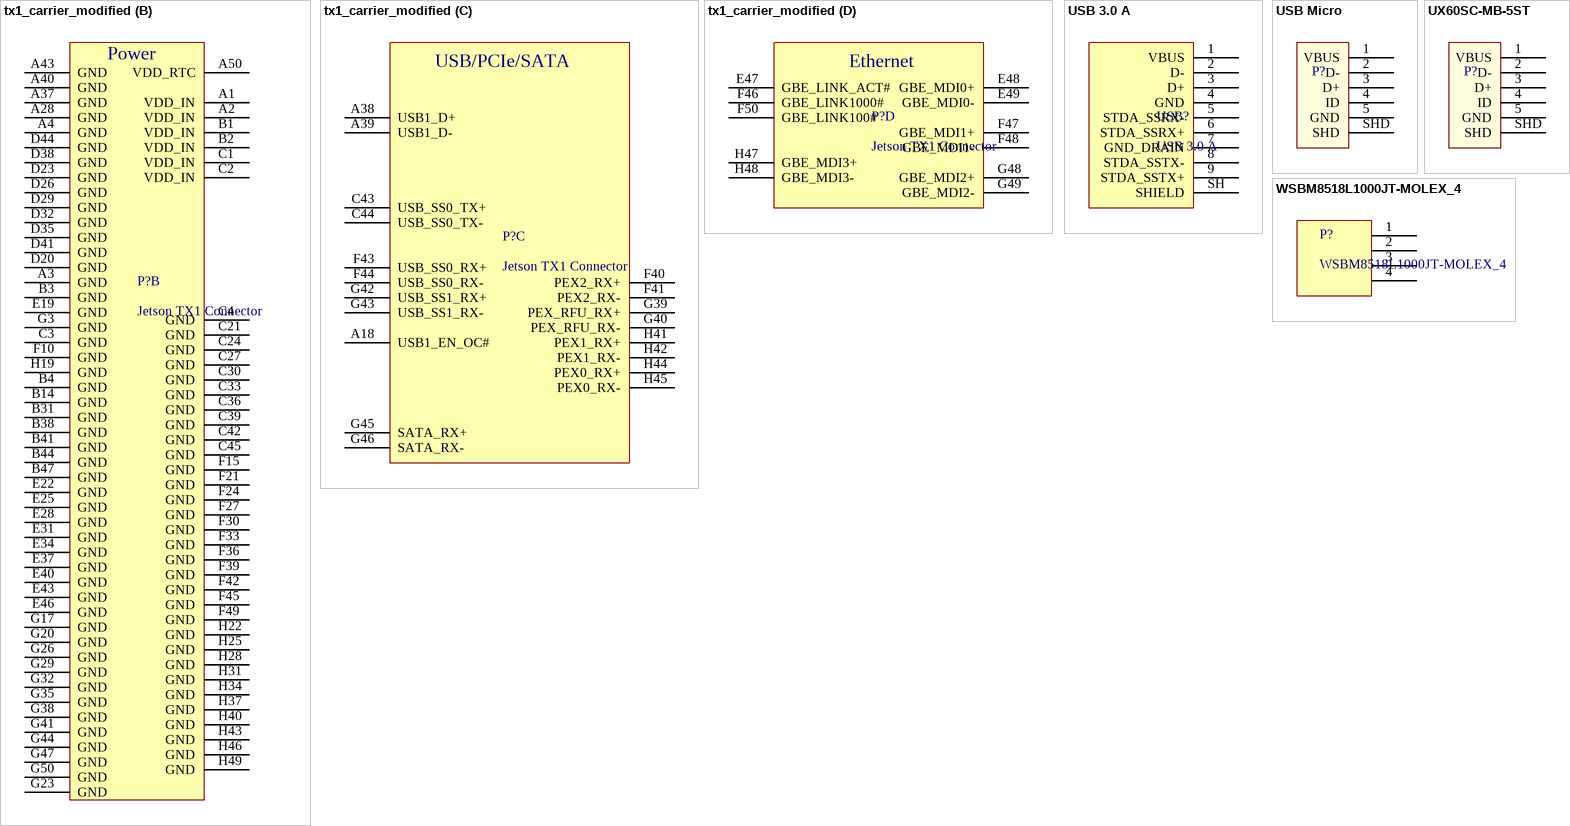
[diagram p3: symbols tx1_carrier_modified to WSBM8518L1000JT-MOLEX_4]

## tx1_carrier_modified
designator P?, comment Jetson TX1 Connector
CONN MALE 400POS 8ROW SMD GOLD; Manufacturer 1: Samtec Inc; Manufacturer Part Number 1: SEAM-50-02.0-S-08-2-A-K-TR; Supplier 1: Digi-Key; Supplier Part Number 1: SEAM-50-02.0-S-08-2-A-K-TR-ND
footprint tx1_carrier_modified (TX 1 carrier board connector modified to remove pads)
part A pins: A47 RESET_IN# "System Reset output from uill & input to initiate full PMIC reset", A48 CARRIER_PWR_ON "Carrier Power On", B7 CARRIER_STBY# "SOC Power Request", B8 VIN_PWR_BAD# "Input Power Bad", B17 FAN_TACH "Fan Tach", B50 POWER_BTN# "Power on", C16 FAN_PWM "Fan PWM"
part B pins: A1 VDD_IN "Main VDD Input", A2 VDD_IN "Main VDD Input", A3 GND, A4 GND, A28 GND, A37 GND, A40 GND, A43 GND, A50 VDD_RTC "Tegra Real Time Clock block power", B1 VDD_IN "Main VDD Input", B2 VDD_IN "Main VDD Input", B3 GND, B4 GND, B14 GND, B31 GND, B38 GND, B41 GND, B44 GND, B47 GND, C1 VDD_IN "Main VDD Input", C2 VDD_IN "Main VDD Input", C3 GND, C4 GND, C21 GND, C24 GND, C27 GND, C30 GND, C33 GND, C36 GND, C39 GND, C42 GND, C45 GND, D20 GND, D23 GND, D26 GND, D29 GND, D32 GND, D35 GND, D38 GND, D41 GND, D44 GND, E19 GND, E22 GND, E25 GND, E28 GND, E31 GND, E34 GND, E37 GND, E40 GND, E43 GND, E46 GND, F10 GND, F15 GND, F21 GND, F24 GND, F27 GND, F30 GND, F33 GND, F36 GND, F39 GND, F42 GND, F45 GND, F49 GND, G3 GND, G17 GND, G20 GND, G23 GND, G26 GND, G29 GND, G32 GND, G35 GND, G38 GND, G41 GND, G44 GND, G47 GND, G50 GND, H19 GND, H22 GND, H25 GND, H28 GND, H31 GND, H34 GND, H37 GND, H40 GND, H43 GND, H46 GND, H49 GND
part C pins: A18 USB1_EN_OC# "USB 3.0 Type A, USB Enable 1", A38 USB1_D+ "USB 2.0, Port 1 Data+", A39 USB1_D- "USB 2.0, Port 1 Data-", C43 USB_SS0_TX+ "USB 3.0 #0 Transmit+ (PCIe Lane 5)", C44 USB_SS0_TX- "USB 3.0 #0 Transmit- (PCIe Lane 5)", F40 PEX2_RX+ "PCIe Lane 2 Receive+", F41 PEX2_RX- "PCIe Lane 2 Receive-", F43 USB_SS0_RX+ "USB 3.0 #0 Receive+ (PCIe Lane 5)", F44 USB_SS0_RX- "USB 3.0 #0 Receive- (PCIe Lane 5)", G39 PEX_RFU_RX+ "PCIe Lane RFU Receive+", G40 PEX_RFU_RX- "PCIe Lane RFU Receive-", G42 USB_SS1_RX+ "USB 3.0 #1 or PCIe Lane 3 Receive+", G43 USB_SS1_RX- "USB 3.0 #1 or PCIe Lane 3 Receive-", G45 SATA_RX+ "SATA Receive+", G46 SATA_RX- "SATA Receive-", H41 PEX1_RX+ "PCIe Lane 1 Receive+", H42 PEX1_RX- "PCIe Lane 1 Receive-", H44 PEX0_RX+ "PCIe Lane 0 Receive+", H45 PEX0_RX- "PCIe Lane 0 Receive-"
part D pins: E47 GBE_LINK_ACT# "GbE RJ45 connector Link ACT LED0", E48 GBE_MDI0+ "GbE Transformer Data 0+", E49 GBE_MDI0- "GbE Transformer Data 0-", F46 GBE_LINK1000# "GbE RJ45 connector Link 1000 LED2", F47 GBE_MDI1+ "GbE Transformer Data 1+", F48 GBE_MDI1- "GbE Transformer Data 1-", F50 GBE_LINK100# "GbE RJ45 connector Link 100 LED1", G48 GBE_MDI2+ "GbE Transformer Data 2+", G49 GBE_MDI2- "GbE Transformer Data 2-", H47 GBE_MDI3+ "GbE Transformer Data 3+", H48 GBE_MDI3- "GbE Transformer Data 3-"
part A text: Misc and System
part B text: Power
part C text: USB/PCIe/SATA
part D text: Ethernet

## USB 3.0 A
designator USB?
USB - A USB 3.0, Super Speed Receptacle Connector 9 Position Through Hole, Right Angle, Horizontal; Manufacturer Part Number 1: 483930003; Manufacturer 1: Molex; Supplier 1: Digi-Key; Supplier Part Number 1: WM10413CT-ND
footprint USB 3.0 A (0483930003)
pins: 1 VBUS, 2 D-, 3 D+, 4 GND, 5 STDA_SSRX-, 6 STDA_SSRX+, 7 GND_DRAIN, 8 STDA_SSTX-, 9 STDA_SSTX+, SH SHIELD

## USB Micro
designator P?  (value not drawn)
USB Mini B Metal Shield SMT; Supplier 1: Digi-Key; Supplier Part Number 1: 609-4613-1-ND
footprint 10118192-0001LF (USB Micro-B Recepticle)
pins: 1 VBUS, 2 D-, 3 D+, 4 ID, 5 GND, SHD

## UX60SC-MB-5ST
designator P?  (value not drawn)
USB Mini B Metal Shield SMT; Supplier 1: Digi-Key; Supplier Part Number 1: H11671CT-ND
footprint UX60SC-MB-5ST (USB Mini-B Recepticle)
pins: 1 VBUS, 2 D-, 3 D+, 4 ID, 5 GND, SHD

## WSBM8518L1000JT-MOLEX_4
designator P?
4 pins of molex type MX150 male to female connector; Manufacturer 1: Vishay-Dale; Manufacturer Part Number 1: WSBM8518L1000JK; Mating Connector 1: 33472-4001; Supplier Number 1: Digi-Key; Supplier Part Number 1: 541-1906-ND
footprint WSBM8518L1000JT-MOLEX_4 (4 pins of molex type MX150 male to female connector)
pins: 1, 2, 3, 4